# Altium integrated library Connectors.IntLib: 4 symbols
Pins are listed as number, name and electrical type; pins without a type are passive.

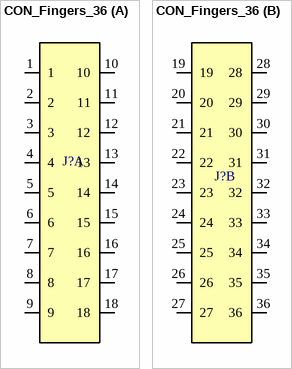
[diagram p0: symbol CON_Fingers_36]

## CON_Fingers_36
designator J?  (value not drawn)
Contact fingers 36 contacts 0.5 mm pitch dual rows
part A pins: 1, 2, 3, 4, 5, 6, 7, 8, 9, 10, 11, 12, 13, 14, 15, 16, 17, 18
part B pins: 19, 20, 21, 22, 23, 24, 25, 26, 27, 28, 29, 30, 31, 32, 33, 34, 35, 36


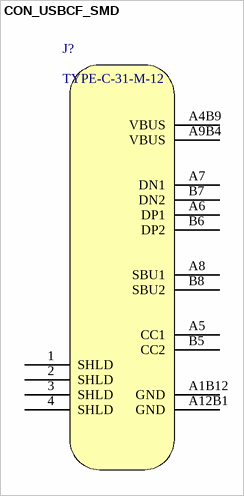
[diagram p1: symbol CON_USBCF_SMD]

## CON_USBCF_SMD
designator J?, comment TYPE-C-31-M-12
1 16P 5A Female Type-C SMD USB Connectors ROHS
footprint TYPE-C-31-M-12 (1 16P 5A Female Type-C SMD USB Connectors ROHS)
pins: 1 SHLD, 2 SHLD, 3 SHLD, 4 SHLD, A1B12 GND, A4B9 VBUS, A5 CC1, A6 DP1, A7 DN1, A8 SBU1, A9B4 VBUS, A12B1 GND, B5 CC2, B6 DP2, B7 DN2, B8 SBU2


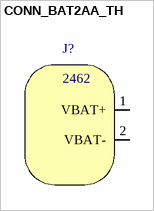
[diagram p2: symbol CONN_BAT2AA_TH]

## CONN_BAT2AA_TH
designator J?, comment 2462
Plugin Battery connector 2x AA ROHS
footprint CONN_BAT2AA_TH (Plugin Battery connector 2x AA ROHS)
pins: 1 VBAT+, 2 VBAT-


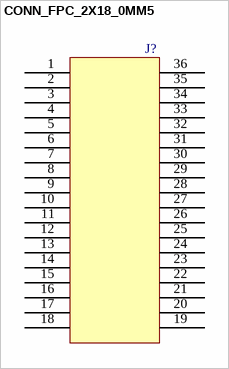
[diagram p3: symbol CONN_FPC_2X18_0MM5]

## CONN_FPC_2X18_0MM5
designator J?, comment XF2M-3615-1A  (value not drawn)
FPC Connector - FPC Side. 0.5 mm pitch / Compatible with XF2M-3615-1A; GRAMS Lib Spec: 2.7
footprint CONN_FPC_2X18_0MM5 (Compatible with XF2M-3615-1A / 0.5 mm pitch, 2X18)
pins: 1, 2, 3, 4, 5, 6, 7, 8, 9, 10, 11, 12, 13, 14, 15, 16, 17, 18, 19, 20, 21, 22, 23, 24, 25, 26, 27, 28, 29, 30, 31, 32, 33, 34, 35, 36